# Altium schematic symbol library NCP718.SchLib: 1 symbol
Pins are listed as number, name and electrical type; pins without a type are passive.

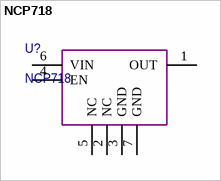
[diagram p0: symbol NCP718]

## NCP718
designator U?
LDO Voltage Regulators 300 MA LOW IQ WIDE INPUT 3.3V
pins: 1 OUT, 2 NC, 3 GND, 4 EN, 5 NC, 6 VIN, 7 GND